# Altium footprint library WB_CHIP.PcbLib: 25 footprints (part 1 of 3)
Each footprint in its own frame and in the unit in brackets; x right, y up, seen from the top. Pads: shape width x height; smd on the part's side, far side on the other; paste and mask are expansions set on the pad; w line width, h text height; cw(c..) or ccw(c..) is an arc to the next point about the centre after c.
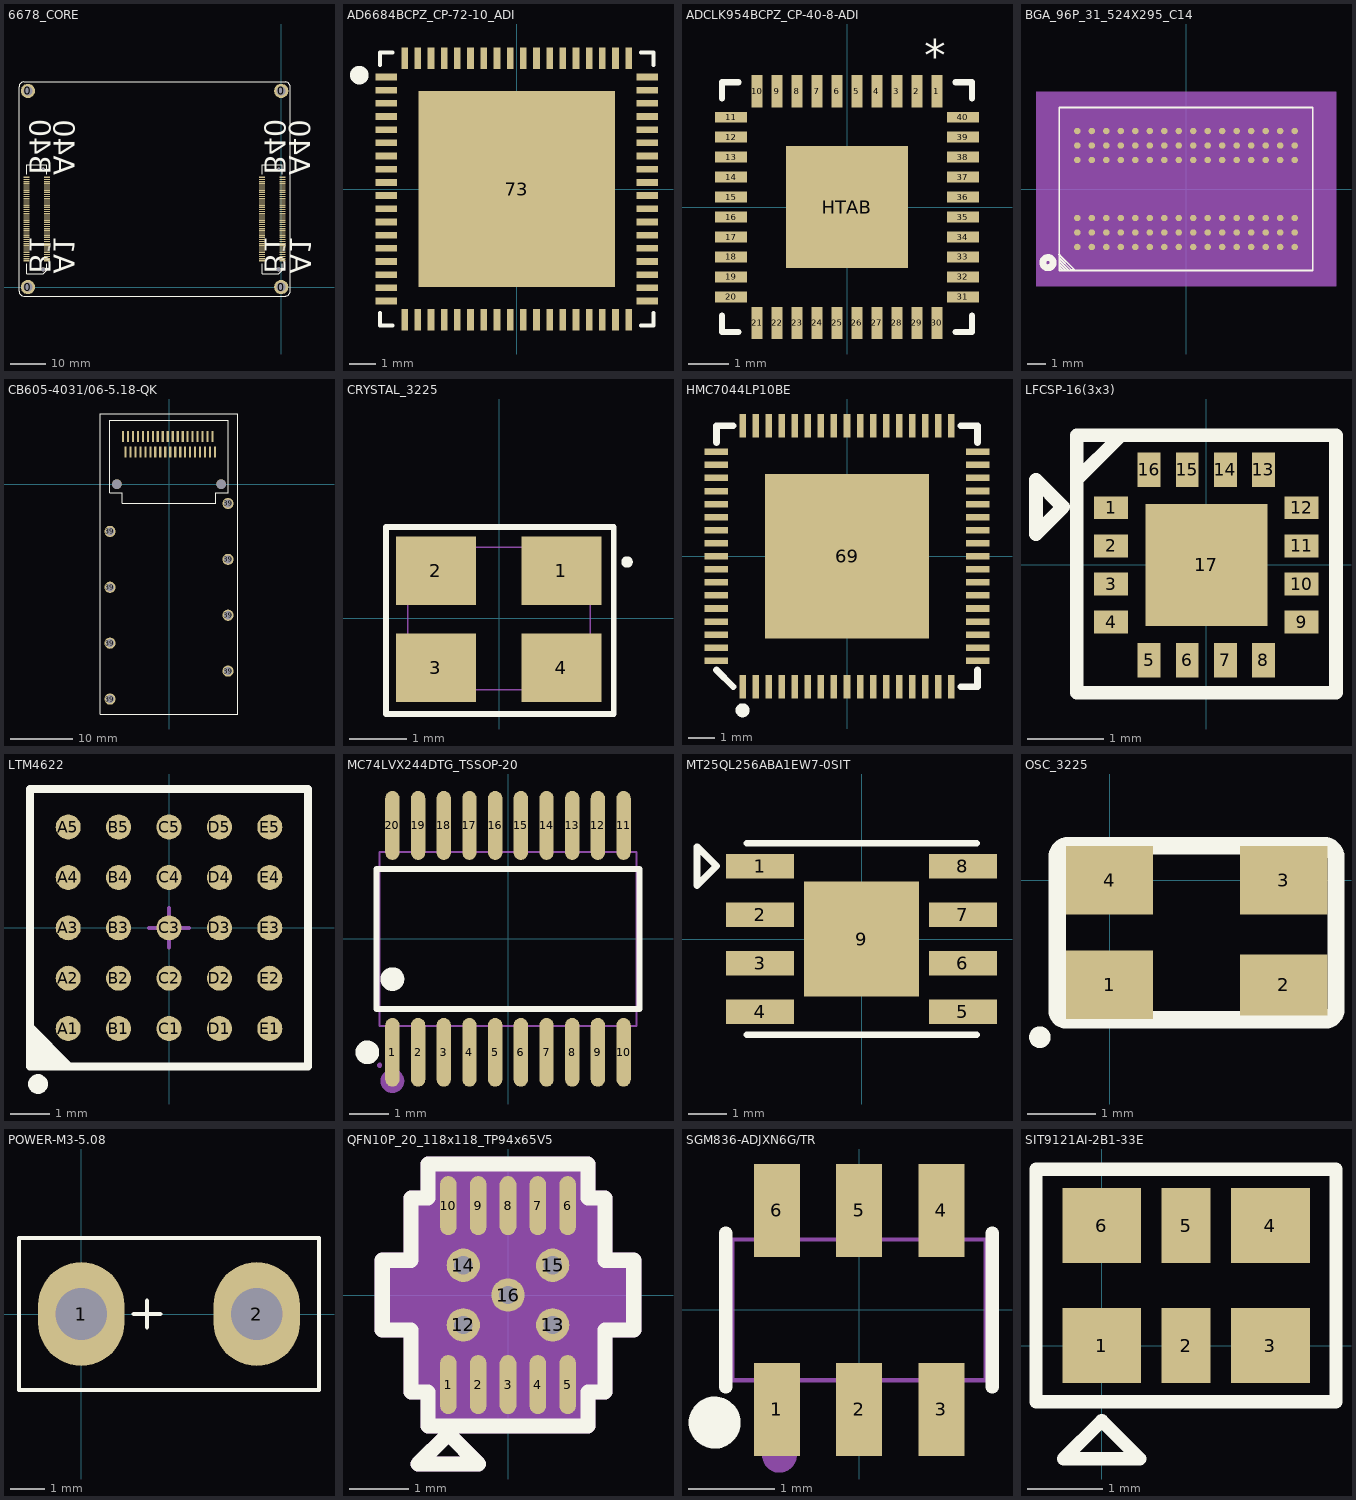
[diagram p0: the footprints below, top view; thin cyan lines are the x and y axes]

## 6678_CORE [mm]
pads (168):
  round 4 hole 2.5: 0(-71,55) 0(-71,0) 0(0,0) 0(0,55)
  rect 1.7x0.35 smd: A1_1(-65.65,7.365) A1_2(-65.65,7.965) A1_3(-65.65,8.565) A1_4(-65.65,9.165) A1_5(-65.65,9.765) A1_6(-65.65,10.365) A1_7(-65.65,10.965) A1_8(-65.65,11.565) A1_9(-65.65,12.165) A1_10(-65.65,12.765) A1_11(-65.65,13.365) A1_12(-65.65,13.965) A1_13(-65.65,14.565) A1_14(-65.65,15.165) A1_15(-65.65,15.765) A1_16(-65.65,16.365) A1_17(-65.65,16.965) A1_18(-65.65,17.565) A1_19(-65.65,18.165) A1_20(-65.65,18.765) A1_21(-65.65,19.365) A1_22(-65.65,19.965) A1_23(-65.65,20.565) A1_24(-65.65,21.165) A1_25(-65.65,21.765) A1_26(-65.65,22.365) A1_27(-65.65,22.965) A1_28(-65.65,23.565) A1_29(-65.65,24.165) A1_30(-65.65,24.765) A1_31(-65.65,25.365) A1_32(-65.65,25.965) A1_33(-65.65,26.565) A1_34(-65.65,27.165) A1_35(-65.65,27.765) A1_36(-65.65,28.365) A1_37(-65.65,28.965) A1_38(-65.65,29.565) A1_39(-65.65,30.165) A1_40(-65.65,30.765) A2_1(0.35,7.365) A2_2(0.35,7.965) A2_3(0.35,8.565) A2_4(0.35,9.165) A2_5(0.35,9.765) A2_6(0.35,10.365) A2_7(0.35,10.965) A2_8(0.35,11.565) A2_9(0.35,12.165) A2_10(0.35,12.765) A2_11(0.35,13.365) A2_12(0.35,13.965) A2_13(0.35,14.565) A2_14(0.35,15.165) A2_15(0.35,15.765) A2_16(0.35,16.365) A2_17(0.35,16.965) A2_18(0.35,17.565) A2_19(0.35,18.165) A2_20(0.35,18.765) A2_21(0.35,19.365) A2_22(0.35,19.965) A2_23(0.35,20.565) A2_24(0.35,21.165) A2_25(0.35,21.765) A2_26(0.35,22.365) A2_27(0.35,22.965) A2_28(0.35,23.565) A2_29(0.35,24.165) A2_30(0.35,24.765) A2_31(0.35,25.365) A2_32(0.35,25.965) A2_33(0.35,26.565) A2_34(0.35,27.165) A2_35(0.35,27.765) A2_36(0.35,28.365) A2_37(0.35,28.965) A2_38(0.35,29.565) A2_39(0.35,30.165) A2_40(0.35,30.765) B1_1(-71.35,7.365) B1_2(-71.35,7.965) B1_3(-71.35,8.565) B1_4(-71.35,9.165) B1_5(-71.35,9.765) B1_6(-71.35,10.365) B1_7(-71.35,10.965) B1_8(-71.35,11.565) B1_9(-71.35,12.165) B1_10(-71.35,12.765) B1_11(-71.35,13.365) B1_12(-71.35,13.965) B1_13(-71.35,14.565) B1_14(-71.35,15.165) B1_15(-71.35,15.765) B1_16(-71.35,16.365) B1_17(-71.35,16.965) B1_18(-71.35,17.565) B1_19(-71.35,18.165) B1_20(-71.35,18.765) B1_21(-71.35,19.365) B1_22(-71.35,19.965) B1_23(-71.35,20.565) B1_24(-71.35,21.165) B1_25(-71.35,21.765) B1_26(-71.35,22.365) B1_27(-71.35,22.965) B1_28(-71.35,23.565) B1_29(-71.35,24.165) B1_30(-71.35,24.765) B1_31(-71.35,25.365) B1_32(-71.35,25.965) B1_33(-71.35,26.565) B1_34(-71.35,27.165) B1_35(-71.35,27.765) B1_36(-71.35,28.365) B1_37(-71.35,28.965) B1_38(-71.35,29.565) B1_39(-71.35,30.165) B1_40(-71.35,30.765) B2_1(-5.35,7.365) B2_2(-5.35,7.965) B2_3(-5.35,8.565) B2_4(-5.35,9.165) B2_5(-5.35,9.765) B2_6(-5.35,10.365) B2_7(-5.35,10.965) B2_8(-5.35,11.565) B2_9(-5.35,12.165) B2_10(-5.35,12.765) B2_11(-5.35,13.365) B2_12(-5.35,13.965) B2_13(-5.35,14.565) B2_14(-5.35,15.165) B2_15(-5.35,15.765) B2_16(-5.35,16.365) B2_17(-5.35,16.965) B2_18(-5.35,17.565) B2_19(-5.35,18.165) B2_20(-5.35,18.765) B2_21(-5.35,19.365) B2_22(-5.35,19.965) B2_23(-5.35,20.565) B2_24(-5.35,21.165) B2_25(-5.35,21.765) B2_26(-5.35,22.365) B2_27(-5.35,22.965) B2_28(-5.35,23.565) B2_29(-5.35,24.165) B2_30(-5.35,24.765) B2_31(-5.35,25.365) B2_32(-5.35,25.965) B2_33(-5.35,26.565) B2_34(-5.35,27.165) B2_35(-5.35,27.765) B2_36(-5.35,28.365) B2_37(-5.35,28.965) B2_38(-5.35,29.565) B2_39(-5.35,30.165) B2_40(-5.35,30.765)
  round 1.1 hole 1.1: ZH-C1(-66.7,4.965) ZH-C1(-0.7,4.965)
  round 0.7 hole 0.7: ZH-C2(-66.7,33.165) ZH-C2(-0.7,33.165)
Top Overlay:
  lines w0.254: -71.3,6.565 -71.3,3.765 -66.7,3.765 -65.7,4.765 -65.7,6.565 ; -71.3,31.565 -71.3,34.365 -65.7,34.365 -65.7,31.565 ; -5.3,6.565 -5.3,3.765 -0.7,3.765 0.3,4.765 0.3,6.565 ; -5.3,31.565 -5.3,34.365 0.3,34.365 0.3,31.565 ; -73.5,-1.23 ccw(c-72.23,-1.23) -72.23,-2.5 1.23,-2.5 ccw(c1.23,-1.23) 2.5,-1.23 2.5,56.23 ccw(c1.23,56.23) 1.23,57.5 -72.23,57.5 ccw(c-72.23,56.23) -73.5,56.23 -73.5,55.521 -73.5,-1.23
  text "A1" at 0.6,3.765 h10
  text "B1" at -6.508,3.765 h10
  text "A40" at -65.686,31.386 h10
  text "B40" at -72.508,31.504 h10
  text "B1" at -72.508,3.765 h10
  text "A1" at -65.7,3.765 h10
  text "B40" at -6.508,31.504 h10
  text "A40" at 0.314,31.386 h10

## AD6684BCPZ_CP-72-10_ADI [mil]
pads (73):
  rect 32x10 smd paste+0 mask+0: 1(-195,167.32) 2(-195,147.64) 3(-195,127.95) 4(-195,108.27) 5(-195,88.58) 6(-195,68.9) 7(-195,49.21) 8(-195,29.53) 9(-195,9.84) 10(-195,-9.84) 11(-195,-29.53) 12(-195,-49.21) 13(-195,-68.9) 14(-195,-88.58) 15(-195,-108.27) 16(-195,-127.95) 17(-195,-147.64) 18(-195,-167.32) 37(195,-167.32) 38(195,-147.64) 39(195,-127.95) 40(195,-108.27) 41(195,-88.58) 42(195,-68.9) 43(195,-49.21) 44(195,-29.53) 45(195,-9.84) 46(195,9.84) 47(195,29.53) 48(195,49.21) 49(195,68.9) 50(195,88.58) 51(195,108.27) 52(195,127.95) 53(195,147.64) 54(195,167.32)
  rect 10x32 smd paste+0 mask+0: 19(-167.32,-195) 20(-147.64,-195) 21(-127.95,-195) 22(-108.27,-195) 23(-88.58,-195) 24(-68.9,-195) 25(-49.21,-195) 26(-29.53,-195) 27(-9.84,-195) 28(9.84,-195) 29(29.53,-195) 30(49.21,-195) 31(68.9,-195) 32(88.58,-195) 33(108.27,-195) 34(127.95,-195) 35(147.64,-195) 36(167.32,-195) 55(167.32,195) 56(147.64,195) 57(127.95,195) 58(108.27,195) 59(88.58,195) 60(68.9,195) 61(49.21,195) 62(29.53,195) 63(9.84,195) 64(-9.84,195) 65(-29.53,195) 66(-49.21,195) 67(-68.9,195) 68(-88.58,195) 69(-108.27,195) 70(-127.95,195) 71(-147.64,195) 72(-167.32,195)
  rect 293x293 smd paste-146 mask+0: 73(0,0)
Top Overlay:
  circle w23.62: c-235,170 r1.97
  lines w6: -204,-185.42 -204,-204 -185.42,-204 ; -204,185.42 -204,204 -185.42,204 ; 185.42,-204 204,-204 204,-185.42 ; 185.42,204 204,204 204,185.42
Top Paste:
  region: -91.84,142.56 -142.56,142.56 -142.56,91.84 -91.84,91.84
  region: -91.84,83.96 -142.56,83.96 -142.56,33.24 -91.84,33.24
  region: -91.84,25.36 -142.56,25.36 -142.56,-25.36 -91.84,-25.36
  region: -91.84,-33.24 -142.56,-33.24 -142.56,-83.96 -91.84,-83.96
  region: -91.84,-91.84 -142.56,-91.84 -142.56,-142.56 -91.84,-142.56
  region: -33.24,142.56 -83.96,142.56 -83.96,91.84 -33.24,91.84
  region: -33.24,83.96 -83.96,83.96 -83.96,33.24 -33.24,33.24
  region: -33.24,25.36 -83.96,25.36 -83.96,-25.36 -33.24,-25.36
  region: -33.24,-33.24 -83.96,-33.24 -83.96,-83.96 -33.24,-83.96
  region: -33.24,-91.84 -83.96,-91.84 -83.96,-142.56 -33.24,-142.56
  region: 25.36,142.56 -25.36,142.56 -25.36,91.84 25.36,91.84
  region: 25.36,83.96 -25.36,83.96 -25.36,33.24 25.36,33.24
  region: 25.36,25.36 -25.36,25.36 -25.36,-25.36 25.36,-25.36
  region: 25.36,-33.24 -25.36,-33.24 -25.36,-83.96 25.36,-83.96
  region: 25.36,-91.84 -25.36,-91.84 -25.36,-142.56 25.36,-142.56
  region: 83.96,142.56 33.24,142.56 33.24,91.84 83.96,91.84
  region: 83.96,83.96 33.24,83.96 33.24,33.24 83.96,33.24
  region: 83.96,25.36 33.24,25.36 33.24,-25.36 83.96,-25.36
  region: 83.96,-33.24 33.24,-33.24 33.24,-83.96 83.96,-83.96
  region: 83.96,-91.84 33.24,-91.84 33.24,-142.56 83.96,-142.56
  region: 142.56,142.56 91.84,142.56 91.84,91.84 142.56,91.84
  region: 142.56,83.96 91.84,83.96 91.84,33.24 142.56,33.24
  region: 142.56,25.36 91.84,25.36 91.84,-25.36 142.56,-25.36
  region: 142.56,-33.24 91.84,-33.24 91.84,-83.96 142.56,-83.96
  region: 142.56,-91.84 91.84,-91.84 91.84,-142.56 142.56,-142.56

## ADCLK954BCPZ_CP-40-8-ADI [mm]
pads (41):
  rect 0.275x0.805 smd paste+0 mask+0: 1(2.25,2.902) 2(1.75,2.902) 3(1.25,2.902) 4(0.75,2.902) 5(0.25,2.902) 6(-0.25,2.902) 7(-0.75,2.902) 8(-1.25,2.902) 9(-1.75,2.902) 10(-2.25,2.902) 21(-2.25,-2.902) 22(-1.75,-2.902) 23(-1.25,-2.902) 24(-0.75,-2.902) 25(-0.25,-2.902) 26(0.25,-2.902) 27(0.75,-2.902) 28(1.25,-2.902) 29(1.75,-2.902) 30(2.25,-2.902)
  rect 0.805x0.275 smd paste+0 mask+0: 11(-2.902,2.25) 12(-2.902,1.75) 13(-2.902,1.25) 14(-2.902,0.75) 15(-2.902,0.25) 16(-2.902,-0.25) 17(-2.902,-0.75) 18(-2.902,-1.25) 19(-2.902,-1.75) 20(-2.902,-2.25) 31(2.902,-2.25) 32(2.902,-1.75) 33(2.902,-1.25) 34(2.902,-0.75) 35(2.902,-0.25) 36(2.902,0.25) 37(2.902,0.75) 38(2.902,1.25) 39(2.902,1.75) 40(2.902,2.25)
  rect 3.05x3.05 smd paste+0 mask+0: HTAB(0,0)
Top Overlay:
  lines w0.152: -3.127,-2.72 -3.127,-3.127 -2.72,-3.127 ; -3.127,2.72 -3.127,3.127 -2.72,3.127 ; 2.72,-3.127 3.127,-3.127 3.127,-2.72 ; 2.72,3.127 3.127,3.127 3.127,2.72
  text "*" at 1.933,3.41 h0.8
Top Paste:
  region: 1.425,-0.1 0.1,-0.1 0.1,-1.425 1.425,-1.425
  region: 1.425,1.425 0.1,1.425 0.1,0.1 1.425,0.1
  region: -0.1,-0.1 -1.425,-0.1 -1.425,-1.425 -0.1,-1.425
  region: -0.1,1.425 -1.425,1.425 -1.425,0.1 -0.1,0.1

## BGA_96P_31_524X295_C14 [mil] "BGA_96P_31_524X295_C14"
pads (96):
  round 14 smd: A1(-236.22,-125.98) A2(-236.22,-94.49) A3(-236.22,-62.99) A7(-236.22,62.99) A8(-236.22,94.49) A9(-236.22,125.98) B1(-204.72,-125.98) B2(-204.72,-94.49) B3(-204.72,-62.99) B7(-204.72,62.99) B8(-204.72,94.49) B9(-204.72,125.98) C1(-173.23,-125.98) C2(-173.23,-94.49) C3(-173.23,-62.99) C7(-173.23,62.99) C8(-173.23,94.49) C9(-173.23,125.98) D1(-141.73,-125.98) D2(-141.73,-94.49) D3(-141.73,-62.99) D7(-141.73,62.99) D8(-141.73,94.49) D9(-141.73,125.98) E1(-110.24,-125.98) E2(-110.24,-94.49) E3(-110.24,-62.99) E7(-110.24,62.99) E8(-110.24,94.49) E9(-110.24,125.98) F1(-78.74,-125.98) F2(-78.74,-94.49) F3(-78.74,-62.99) F7(-78.74,62.99) F8(-78.74,94.49) F9(-78.74,125.98) G1(-47.24,-125.98) G2(-47.24,-94.49) G3(-47.24,-62.99) G7(-47.24,62.99) G8(-47.24,94.49) G9(-47.24,125.98) H1(-15.75,-125.98) H2(-15.75,-94.49) H3(-15.75,-62.99) H7(-15.75,62.99) H8(-15.75,94.49) H9(-15.75,125.98) J1(15.75,-125.98) J2(15.75,-94.49) J3(15.75,-62.99) J7(15.75,62.99) J8(15.75,94.49) J9(15.75,125.98) K1(47.24,-125.98) K2(47.24,-94.49) K3(47.24,-62.99) K7(47.24,62.99) K8(47.24,94.49) K9(47.24,125.98) L1(78.74,-125.98) L2(78.74,-94.49) L3(78.74,-62.99) L7(78.74,62.99) L8(78.74,94.49) L9(78.74,125.98) M1(110.24,-125.98) M2(110.24,-94.49) M3(110.24,-62.99) M7(110.24,62.99) M8(110.24,94.49) M9(110.24,125.98) N1(141.73,-125.98) N2(141.73,-94.49) N3(141.73,-62.99) N7(141.73,62.99) N8(141.73,94.49) N9(141.73,125.98) P1(173.23,-125.98) P2(173.23,-94.49) P3(173.23,-62.99) P7(173.23,62.99) P8(173.23,94.49) P9(173.23,125.98) R1(204.72,-125.98) R2(204.72,-94.49) R3(204.72,-62.99) R7(204.72,62.99) R8(204.72,94.49) R9(204.72,125.98) T1(236.22,-125.98) T2(236.22,-94.49) T3(236.22,-62.99) T7(236.22,62.99) T8(236.22,94.49) T9(236.22,125.98)
Top Overlay:
  circle w15: c-300,-160 r11.18
  lines w3.94: -275.98,-142.52 -275.2,-142.52 -241.73,-175.98 -248.82,-175.98 -275.2,-149.61 -275.2,-156.3 -255.12,-176.38 -261.42,-176.38 -274.41,-163.39 -274.41,-170.08 -268.11,-176.38 ; -275.59,-177.16 -275.59,177.16 275.59,177.16 275.59,-177.16 -275.59,-177.16
Mechanical 5:
  circle w15: c-300,-160 r11.18
  lines w3.94: -275.98,-142.52 -275.2,-142.52 -241.73,-175.98 -248.82,-175.98 -275.2,-149.61 -275.2,-156.3 -255.12,-176.38 -261.42,-176.38 -274.41,-163.39 -274.41,-170.08 -268.11,-176.38 ; -275.59,-177.16 -275.59,177.16 275.59,177.16 275.59,-177.16 -275.59,-177.16
  text "U4" at -362.51,27.5 h25
Mechanical 14:
  text "T9" at 236.22,146.14 h25.2
  text "P9" at 173.23,146.14 h25.2
  text "M9" at 110.24,146.14 h25.2
  text "J8" at 15.75,114.65 h25.2
  text "T1" at 236.22,-105.82 h25.2
  text "P1" at 173.23,-105.82 h25.2
  text "M1" at 110.24,-105.82 h25.2
  text "J2" at 15.75,-74.33 h25.2
  text "A9" at -236.22,146.14 h25.2
  text "B9" at -204.72,146.14 h25.2
  text "B3" at -204.72,-42.83 h25.2
  text "G8" at -47.24,114.65 h25.2
  text "G9" at -47.24,146.14 h25.2
  text "F9" at -78.74,146.14 h25.2
  text "E8" at -110.24,114.65 h25.2
  text "D8" at -141.73,114.65 h25.2
  text "G1" at -47.24,-105.82 h25.2
  text "E1" at -110.24,-105.82 h25.2
  text "E2" at -110.24,-74.33 h25.2
  text "D1" at -141.73,-105.82 h25.2
  text "B1" at -204.72,-105.82 h25.2
  text "L9" at 78.74,146.14 h25.2
  text "L1" at 78.74,-105.82 h25.2
  text "J9" at 15.75,146.14 h25.2
  text "J1" at 15.75,-105.82 h25.2
  text "B7" at -204.72,83.15 h25.2
  text "F3" at -78.74,-42.83 h25.2
  text "P8" at 173.23,114.65 h25.2
  text "H3" at -15.75,-42.83 h25.2
  text "P2" at 173.23,-74.33 h25.2
  text "E3" at -110.24,-42.83 h25.2
  text "A3" at -236.22,-42.83 h25.2
  text "A7" at -236.22,83.15 h25.2
  text "F8" at -78.74,114.65 h25.2
  text "R3" at 204.72,-42.83 h25.2
  text "N7" at 141.73,83.15 h25.2
  text "F7" at -78.74,83.15 h25.2
  text "M7" at 110.24,83.15 h25.2
  text "C3" at -173.23,-42.83 h25.2
  text "D7" at -141.73,83.15 h25.2
  text "T8" at 236.22,114.65 h25.2
  text "P7" at 173.23,83.15 h25.2
  text "T3" at 236.22,-42.83 h25.2
  text "C2" at -173.23,-74.33 h25.2
  text "N2" at 141.73,-74.33 h25.2
  text "G2" at -47.24,-74.33 h25.2
  text "A2" at -236.22,-74.33 h25.2
  text "H7" at -15.75,83.15 h25.2
  text "R8" at 204.72,114.65 h25.2
  text "N3" at 141.73,-42.83 h25.2
  text "F2" at -78.74,-74.33 h25.2
  text "C8" at -173.23,114.65 h25.2
  text "P3" at 173.23,-42.83 h25.2
  text "T2" at 236.22,-74.33 h25.2
  text "B8" at -204.72,114.65 h25.2
  text "H8" at -15.75,114.65 h25.2
  text "L7" at 78.74,83.15 h25.2
  text "R7" at 204.72,83.15 h25.2
  text "R2" at 204.72,-74.33 h25.2
  text "T7" at 236.22,83.15 h25.2
  text "K1" at 47.24,-105.82 h25.2
  text "G3" at -47.24,-42.83 h25.2
  text "C7" at -173.23,83.15 h25.2
  text "L8" at 78.74,114.65 h25.2
  text "N8" at 141.73,114.65 h25.2
  text "L2" at 78.74,-74.33 h25.2
  text "M3" at 110.24,-42.83 h25.2
  text "L3" at 78.74,-42.83 h25.2
  text "J3" at 15.75,-42.83 h25.2
  text "K7" at 47.24,83.15 h25.2
  text "J7" at 15.75,83.15 h25.2
  text "K3" at 47.24,-42.83 h25.2
  text "K9" at 47.24,146.14 h25.2
  text "M2" at 110.24,-74.33 h25.2
  text "E7" at -110.24,83.15 h25.2
  text "D3" at -141.73,-42.83 h25.2
  text "M8" at 110.24,114.65 h25.2
  text "H1" at -15.75,-105.82 h25.2
  text "N9" at 141.73,146.14 h25.2
  text "N1" at 141.73,-105.82 h25.2
  text "K2" at 47.24,-74.33 h25.2
  text "H9" at -15.75,146.14 h25.2
  text "G7" at -47.24,83.15 h25.2
  text "A8" at -236.22,114.65 h25.2
  text "C9" at -173.23,146.14 h25.2
  text "D9" at -141.73,146.14 h25.2
  text "E9" at -110.24,146.14 h25.2
  text "K8" at 47.24,114.65 h25.2
  text "H2" at -15.75,-74.33 h25.2
  text "C1" at -173.23,-105.82 h25.2
  text "B2" at -204.72,-74.33 h25.2
  text "A1" at -236.22,-105.82 h25.2
  text "D2" at -141.73,-74.33 h25.2
  text "F1" at -78.74,-105.82 h25.2
  text "R9" at 204.72,146.14 h25.2
  text "R1" at 204.72,-105.82 h25.2
Mechanical 16:
  pour cut-out: -325.98,-211.81 325.98,-211.81 325.98,211.81 -325.98,211.81
  region: -285,-185 285,-185 285,185 -285,185
3D body: height 150, standoff 0, extent -285,-185 285,185

## CB605-4031/06-5.18-QK [mm]
pads (48):
  rect 0.35x1.8 smd: 1(-7,5.18) 2(-6.2,5.18) 3(-5.4,5.18) 4(-4.6,5.18) 5(-3.8,5.18) 6(-3,5.18) 7(-2.2,5.18) 8(-1.4,5.18) 9(-0.6,5.18) 10(0.2,5.18) 11(1,5.18) 12(1.8,5.18) 13(2.6,5.18) 14(3.4,5.18) 15(4.2,5.18) 16(5,5.18) 17(5.8,5.18) 18(6.6,5.18) 19(7.4,5.18) 20(7,7.69) 21(6.2,7.69) 22(5.4,7.69) 23(4.6,7.69) 24(3.8,7.69) 25(3,7.69) 26(2.2,7.69) 27(1.4,7.69) 28(0.6,7.69) 29(-0.2,7.69) 30(-1,7.69) 31(-1.8,7.69) 32(-2.6,7.69) 33(-3.4,7.69) 34(-4.2,7.69) 35(-5,7.69) 36(-5.8,7.69) 37(-6.6,7.69) 38(-7.4,7.69)
  round 1.8 hole 1.3: 39(-9.5,-34.6) 39(-9.5,-25.6) 39(-9.5,-16.6) 39(-9.5,-7.6) 39(9.5,-30.1) 39(9.5,-21.1) 39(9.5,-12.1) 39(9.5,-3.1)
  round 1.55 hole 1.55: ""(-8.4,0) ""(8.4,0)
Top Overlay:
  lines w0.1: -11.075,-37 11.075,-37 11.075,11.3 -11.075,11.3 -11.075,-37 ; -9.5,-1.36 -9.5,10.3 9.5,10.3 9.5,-1.36 7.51,-1.36 7.51,-3.05 -7.51,-3.05 -7.51,-1.36 -9.5,-1.36

## CRYSTAL_3225 [mil] "CRYSTAL_3225"
pads (4):
  rect 55.12x47.24 smd: 1(43,33.01) 2(-43.62,33.01) 3(-43.62,-33.92) 4(43,-33.92)
Top Overlay:
  circle w3.94: c88.27,38.91 r1.97
  lines w3.94: -78,-65.99 79,-65.99 79,63.01 -78,63.01 -78,-65.99
Mechanical 7:
  lines w1: -63,-49.21 62.99,-49.21 62.99,49.21 -63,49.21 -63,-49.21

## HMC7044LP10BE [mm] "PLL"
pads (69):
  rect 0.25x0.9 smd mask+0.051: 1(-4,-5) 2(-3.5,-5) 3(-3,-5) 4(-2.5,-5) 5(-2,-5) 6(-1.5,-5) 7(-1,-5) 8(-0.5,-5) 9(0,-5) 10(0.5,-5) 11(1,-5) 12(1.5,-5) 13(2,-5) 14(2.5,-5) 15(3,-5) 16(3.5,-5) 17(4,-5) 35(4,5) 36(3.5,5) 37(3,5) 38(2.5,5) 39(2,5) 40(1.5,5) 41(1,5) 42(0.5,5) 43(0,5) 44(-0.5,5) 45(-1,5) 46(-1.5,5) 47(-2,5) 48(-2.5,5) 49(-3,5) 50(-3.5,5) 51(-4,5)
  rect 0.9x0.25 smd mask+0.051: 18(5,-4) 19(5,-3.5) 20(5,-3) 21(5,-2.5) 22(5,-2) 23(5,-1.5) 24(5,-1) 25(5,-0.5) 26(5,0) 27(5,0.5) 28(5,1) 29(5,1.5) 30(5,2) 31(5,2.5) 32(5,3) 33(5,3.5) 34(5,4) 52(-5,4) 53(-5,3.5) 54(-5,3) 55(-5,2.5) 56(-5,2) 57(-5,1.5) 58(-5,1) 59(-5,0.5) 60(-5,0) 61(-5,-0.5) 62(-5,-1) 63(-5,-1.5) 64(-5,-2) 65(-5,-2.5) 66(-5,-3) 67(-5,-3.5) 68(-5,-4)
  rect 6.3x6.3 smd mask+0.051: 69(0,0)
Top Overlay:
  circle w0.254: c-4,-5.9 r0.141
  lines w0.254: -5,-4.356 -4.356,-5 ; -5,4.356 -5,5 -4.356,5 ; 4.356,-5 5,-5 5,-4.356 ; 4.356,5 5,5 5,4.356

## LFCSP-16(3x3) [mm] "ADCLK944"
height 1.2
pads (17):
  rect 0.45x0.3 smd: 1(-1.25,0.75) 2(-1.25,0.25) 3(-1.25,-0.25) 4(-1.25,-0.75) 9(1.25,-0.75) 10(1.25,-0.25) 11(1.25,0.25) 12(1.25,0.75)
  rect 0.3x0.45 smd: 5(-0.75,-1.25) 6(-0.25,-1.25) 7(0.25,-1.25) 8(0.75,-1.25) 13(0.75,1.25) 14(0.25,1.25) 15(-0.25,1.25) 16(-0.75,1.25)
  rect 1.6x1.6 smd: 17(0,0)
Top Overlay:
  lines w0.178: -1.689,1.13 -1.143,1.676 ; -2.235,0.406 -1.88,0.762 -2.235,1.118 -2.235,0.406 ; -1.702,-1.676 1.702,-1.676 1.702,1.702 -1.702,1.702 -1.702,-1.676

## LTM4622 [mm]
pads (25):
  round 0.63 smd: A1(-2.54,-2.54) A2(-2.54,-1.27) A3(-2.54,0) A4(-2.54,1.27) A5(-2.54,2.54) B1(-1.27,-2.54) B2(-1.27,-1.27) B3(-1.27,0) B4(-1.27,1.27) B5(-1.27,2.54) C1(0,-2.54) C2(0,-1.27) C3(0,0) C4(0,1.27) C5(0,2.54) D1(1.27,-2.54) D2(1.27,-1.27) D3(1.27,0) D4(1.27,1.27) D5(1.27,2.54) E1(2.54,-2.54) E2(2.54,-1.27) E3(2.54,0) E4(2.54,1.27) E5(2.54,2.54)
Top Overlay:
  circle w0.25: c-3.302,-3.937 r0.125
  region: -3.5,-2.5 -2.5,-3.5 -3.5,-3.5
  lines w0.2: -3.5,-2.5 -2.5,-3.5 ; -3.5,-3.5 -3.5,3.5 3.5,3.5 3.5,-3.5 -3.5,-3.5
Mechanical 13:
  lines w0.1: -3.5,-3.5 -3.5,3.5 3.5,3.5 3.5,-3.5 -3.5,-3.5
Mechanical 15:
  lines w0.1: -0.5,0 0.5,0 ; 0,-0.5 0,0.5
3D body: height 1.55, standoff 0, extent -3.5,-3.5 3.5,3.5

## MC74LVX244DTG_TSSOP-20 [mil] "收发器"
pads (20):
  oval 14.33x68.58 smd: 1(-115.16,-113.03) 2(-89.57,-113.03) 3(-63.98,-113.03) 4(-38.39,-113.03) 5(-12.79,-113.03) 6(12.8,-113.03) 7(38.39,-113.03) 8(63.98,-113.03) 9(89.57,-113.03) 10(115.16,-113.03) 11(115.16,113.03) 12(89.57,113.03) 13(63.98,113.03) 14(38.39,113.03) 15(12.8,113.03) 16(-12.79,113.03) 17(-38.39,113.03) 18(-63.98,113.03) 19(-89.57,113.03) 20(-115.16,113.03)
Top Overlay:
  circle w11.81: c-140.13,-113.03 r5.91
  circle w11.81: c-115.16,-40.12 r5.91
  lines w6: -130.95,-69.74 130.95,-69.74 130.95,69.74 -130.95,69.74 -130.95,-69.74
Mechanical 6:
  circle w11.81: c-115.16,-141.73 r5.91
Mechanical 15:
  drawing of 45 lines, arcs and shapes, not listed

## MT25QL256ABA1EW7-0SIT [mm]
pads (9):
  rect 1.778x0.635 smd: 1(-2.65,1.905) 2(-2.65,0.635) 3(-2.65,-0.635) 4(-2.65,-1.905) 5(2.65,-1.905) 6(2.65,-0.635) 7(2.65,0.635) 8(2.65,1.905)
  rect 3x3 smd: 9(0,0)
Top Overlay:
  lines w0.178: -3,-2.5 3,-2.5 ; -3,2.5 3,2.5 ; -4.301,1.397 -3.793,1.905 -4.301,2.413 -4.301,1.397

## OSC_3225 [mil]
pads (4):
  rect 50x39.37 smd: 1(0,-60) 3(100,0) 4(0,0)
  rect 50x35 smd: 2(100,-60)
Top Overlay:
  circle w7.87: c-40,-90 r2.24
  lines w10: -30,-75 ccw(c-25,-75) -25,-80 -5,-80 124,-80 ccw(c124,-74) 130,-74 130,13 ccw(c123,13) 123,20 101,20 -3,20 -23.55,20 ccw(c-23.55,13.55) -30,13.55 -30,-75

## POWER-M3-5.08 [mm]
pads (2):
  oval 2.5x3 hole 1.5: 1(0,0) 2(5.08,0)
Top Overlay:
  lines w0.127: 1.524,0 2.286,0 ; 1.905,-0.381 1.905,0.381 ; -1.8,-2.2 -1.8,0 -1.8,2.2 6.88,2.2 6.88,-2.2 -1.8,-2.2

## QFN10P_20_118x118_TP94x65V5 [mil] "QFN10P_20_118X118_TP94X65V5"
pads (16):
  oval 11x39 smd: 1(-39.37,-59.06) 2(-19.69,-59.06) 3(0,-59.06) 4(19.69,-59.06) 5(39.37,-59.06) 6(39.37,59.06) 7(19.69,59.06) 8(0,59.06) 9(-19.69,59.06) 10(-39.37,59.06)
  oct 1x1 smd: 11(0,0)
  round 22 hole 12: 12(-29.53,-19.69) 13(29.53,-19.69) 14(-29.53,19.69) 15(29.53,19.69) 16(0,0)
Top Overlay:
  lines w10: -83,-23 -83,23 -64.06,23 -64.06,64.06 -52.87,64.06 -52.87,86.56 52.87,86.56 52.87,64.06 64.06,64.06 64.06,23 83,23 83,-23 64.06,-23 64.06,-64.06 52.87,-64.06 52.87,-86.56 -52.87,-86.56 -52.87,-64.06 -64.06,-64.06 -64.06,-23 -83,-23 ; -59.37,-111.56 -39.37,-91.56 -19.37,-111.56 -59.37,-111.56
Mechanical 5:
  lines w10: -83,-23 -64.06,-23 -64.06,-64.06 -52.87,-64.06 -52.87,-86.56 52.87,-86.56 52.87,-64.06 64.06,-64.06 64.06,-23 83,-23 83,23 64.06,23 64.06,64.06 52.87,64.06 52.87,86.56 -52.87,86.56 -52.87,64.06 -64.06,64.06 -64.06,23 -83,23 -83,-23 ; -59.37,-111.56 -19.37,-111.56 -39.37,-91.56 -59.37,-111.56
Mechanical 14:
  text "1" at -28.17,-59.06 h28
  text "7" at 30.89,59.06 h28
  text "9" at -8.49,59.06 h28
  text "2" at -8.49,-59.06 h28
  text "3" at 11.2,-59.06 h28
  text "5" at 50.57,-59.06 h28
  text "6" at 50.57,59.06 h28
  text "10" at -16.97,59.06 h28
  text "4" at 30.89,-59.06 h28
  text "8" at 11.2,59.06 h28
  text "13" at 51.93,-19.69 h28
  text "14" at -7.13,19.69 h28
  text "16" at 22.4,0 h28
  text "15" at 51.93,19.69 h28
  text "12" at -7.13,-19.69 h28
  text "11" at 22.4,0 h28
Mechanical 16:
  pour cut-out: 52.87,86.56 52.87,64.06 64.06,64.06 64.06,23 83,23 83,-23 64.06,-23 64.06,-64.06 52.87,-64.06 52.87,-86.56 -52.87,-86.56 -52.87,-64.06 -64.06,-64.06 -64.06,-23 -83,-23 -83,23 -64.06,23 -64.06,64.06 -52.87,64.06 -52.87,86.56
  region: -59.06,-59.06 59.06,-59.06 59.06,59.06 -59.06,59.06
  lines w1: -59.06,-59.06 -59.06,59.06 59.06,59.06 59.06,-59.06 -59.06,-59.06
Mechanical 17:
3D body: height 150, standoff 0, extent -59.06,-59.06 59.06,59.06

## SGM836-ADJXN6G/TR [mil]
pads (6):
  rect 20.95x42.2 smd: 1(-37.4,-45.24) 2(0,-45.24) 3(37.4,-45.24) 4(37.4,45.24) 5(0,45.24) 6(-37.4,45.24)
Top Overlay:
  circle w11.81: c-65.68,-51.24 r5.91
  lines w6: -60.6,-35.01 -60.6,35.01 ; 60.6,-35.01 60.6,35.01
Mechanical 6:
  circle w7.87: c-36.22,-66.14 r3.94
Mechanical 15:
  region: -45.87,36.81 -28.94,36.81 -28.94,31.61 -45.87,31.61
  region: -45.87,36.42 -28.94,36.42 -28.94,55.12 -45.87,55.12
  region: -8.46,36.81 8.46,36.81 8.46,31.61 -8.46,31.61
  region: -8.46,36.42 8.46,36.42 8.46,55.12 -8.46,55.12
  region: 28.94,36.81 45.87,36.81 45.87,31.61 28.94,31.61
  region: 28.94,36.42 45.87,36.42 45.87,55.12 28.94,55.12
  region: 28.94,-31.61 45.87,-31.61 45.87,-36.81 28.94,-36.81
  region: 28.94,-36.42 45.87,-36.42 45.87,-55.12 28.94,-55.12
  region: -8.46,-31.61 8.46,-31.61 8.46,-36.81 -8.46,-36.81
  region: -8.46,-36.42 8.46,-36.42 8.46,-55.12 -8.46,-55.12
  region: -45.87,-31.61 -28.94,-31.61 -28.94,-36.81 -45.87,-36.81
  region: -45.87,-36.42 -28.94,-36.42 -28.94,-55.12 -45.87,-55.12
  region: -55.24,-55.12 -55.26,-54.15 -56.64,-52.81 -58.56,-52.81 -59.94,-54.16 -59.96,-55.12 -59.94,-56.08 -58.56,-57.43 -56.63,-57.43 -55.26,-56.08 -55.24,-55.12
  lines w2: -57.6,-32.01 -57.6,32.01 57.6,32.01 57.6,-32.01 -57.6,-32.01

## SIT9121AI-2B1-33E [mm]
pads (6):
  rect 1.05x1 smd: 1(0,0) 3(2.25,0) 4(2.25,1.6) 6(0,1.6)
  rect 0.65x1 smd: 2(1.125,0) 5(1.125,1.6)
Top Overlay:
  lines w0.178: -0.875,-0.75 3.125,-0.75 3.125,2.35 -0.875,2.35 -0.875,-0.75 ; -0.508,-1.508 0.508,-1.508 0,-1 -0.508,-1.508